# Altium footprint library MyPcbLib.PcbLib: 3 footprints
Each footprint in its own frame and in the unit in brackets; x right, y up, seen from the top. Pads: shape width x height; smd on the part's side, far side on the other; paste and mask are expansions set on the pad; w line width, h text height; cw(c..) or ccw(c..) is an arc to the next point about the centre after c.
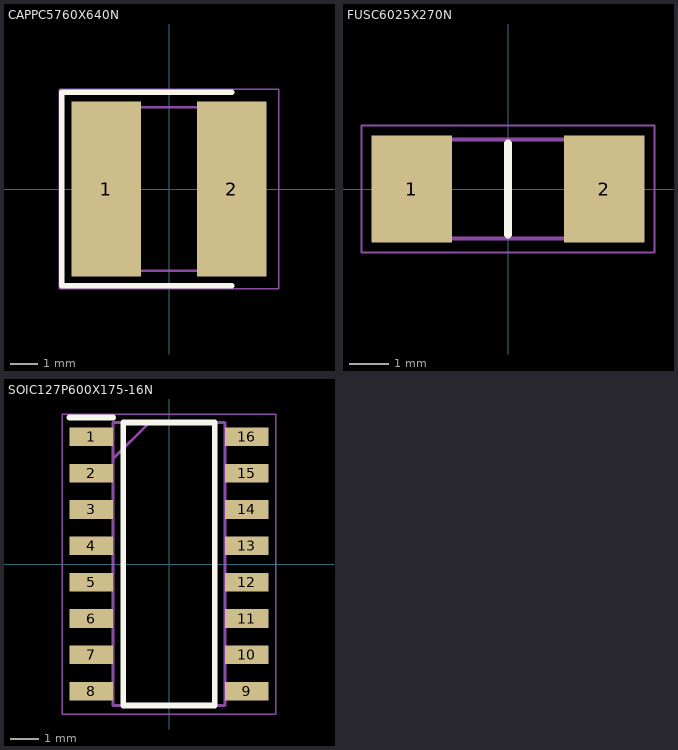
[diagram p0: the footprints below, top view; thin cyan lines are the x and y axes]

## CAPPC5760X640N [mm]
pads (2):
  rect 2.55x6.4 smd: 1(-2.3,0) 2(2.3,0)
Top Overlay:
  lines w0.2: 2.3,-3.55 -3.925,-3.55 -3.925,3.55 2.3,3.55
Mechanical 13:
  lines w0.1: -2.85,1.725 -1.575,3 ; -2.85,-3 -2.85,3 2.85,3 2.85,-3 -2.85,-3
Mechanical 15:
  lines w0.05: -4.025,-3.65 -4.025,3.65 4.025,3.65 4.025,-3.65 -4.025,-3.65
3D body "597D476X0050Z2T.stp": height 6, standoff 0, extent -4.541,-3.021 3.054,3.024

## FUSC6025X270N [mm]
pads (2):
  rect 2.04x2.72 smd: 1(-2.44,0) 2(2.44,0)
Top Overlay:
  lines w0.2: 0,-1.15 0,1.15
Mechanical 13:
  lines w0.1: -3,-1.25 -3,1.25 3,1.25 3,-1.25 -3,-1.25
Mechanical 15:
  lines w0.05: -3.71,-1.61 -3.71,1.61 3.71,1.61 3.71,-1.61 -3.71,-1.61
3D body "CCF1N10TTE.stp": height 2.7, standoff 0, extent -3,-1.25 3,1.25

## SOIC127P600X175-16N [mm]
pads (16):
  rect 1.522x0.65 smd: 1(-2.714,4.445) 2(-2.714,3.175) 3(-2.714,1.905) 4(-2.714,0.635) 5(-2.714,-0.635) 6(-2.714,-1.905) 7(-2.714,-3.175) 8(-2.714,-4.445) 9(2.714,-4.445) 10(2.714,-3.175) 11(2.714,-1.905) 12(2.714,-0.635) 13(2.714,0.635) 14(2.714,1.905) 15(2.714,3.175) 16(2.714,4.445)
Top Overlay:
  lines w0.2: -3.475,5.12 -1.952,5.12 ; -1.602,-4.945 -1.602,4.945 1.602,4.945 1.602,-4.945 -1.602,-4.945
Mechanical 13:
  lines w0.1: -1.952,3.675 -0.682,4.945 ; -1.952,-4.945 -1.952,4.945 1.952,4.945 1.952,-4.945 -1.952,-4.945
Mechanical 15:
  lines w0.05: -3.725,-5.24 -3.725,5.24 3.725,5.24 3.725,-5.24 -3.725,-5.24
3D body "IRS2092STRPBF.stp": height 0, standoff 0, extent 0,0 0,0